# EAGLE library part FCI-10118064-5001310LF (library cape)
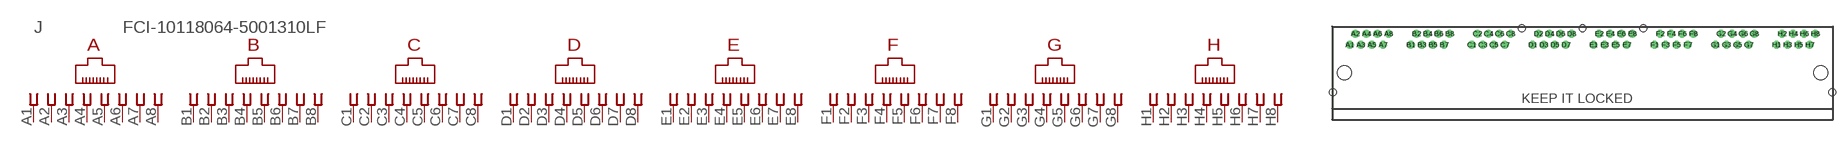
[diagram p0: symbol with the pads of FCI-10118064-5001310LF; footprint FCI-10118064-5001310LF]

Designator prefix J

## FCI-10118064-5001310LF  [FCI-10118064-5001310LF]
A1  A1  pas
A2  A2  pas
A3  A3  pas
A4  A4  pas
A5  A5  pas
A6  A6  pas
A7  A7  pas
A8  A8  pas
B1  B1  pas
B2  B2  pas
B3  B3  pas
B4  B4  pas
B5  B5  pas
B6  B6  pas
B7  B7  pas
B8  B8  pas
C1  C1  pas
C2  C2  pas
C3  C3  pas
C4  C4  pas
C5  C5  pas
C6  C6  pas
C7  C7  pas
C8  C8  pas
D1  D1  pas
D2  D2  pas
D3  D3  pas
D4  D4  pas
D5  D5  pas
D6  D6  pas
D7  D7  pas
D8  D8  pas
E1  E1  pas
E2  E2  pas
E3  E3  pas
E4  E4  pas
E5  E5  pas
E6  E6  pas
E7  E7  pas
E8  E8  pas
F1  F1  pas
F2  F2  pas
F3  F3  pas
F4  F4  pas
F5  F5  pas
F6  F6  pas
F7  F7  pas
F8  F8  pas
G1  G1  pas
G2  G2  pas
G3  G3  pas
G4  G4  pas
G5  G5  pas
G6  G6  pas
G7  G7  pas
G8  G8  pas
H1  H1  pas
H2  H2  pas
H3  H3  pas
H4  H4  pas
H5  H5  pas
H6  H6  pas
H7  H7  pas
H8  H8  pas

## Footprint FCI-10118064-5001310LF (pad centres in mm)
drill 0.9 pad 1.778: A1 -53.375,6.35; A2 -52.105,8.89; A3 -50.835,6.35; A4 -49.565,8.89; A5 -48.295,6.35; A6 -47.025,8.89; A7 -45.755,6.35; A8 -44.485,8.89; B1 -39.395,6.35; B2 -38.125,8.89; B3 -36.855,6.35; B4 -35.585,8.89; B5 -34.315,6.35; B6 -33.045,8.89; B7 -31.775,6.35; B8 -30.505,8.89; C1 -25.415,6.35; C2 -24.145,8.89; C3 -22.875,6.35; C4 -21.605,8.89; C5 -20.335,6.35; C6 -19.065,8.89; C7 -17.795,6.35; C8 -16.525,8.89; D1 -11.435,6.35; D2 -10.165,8.89; D3 -8.895,6.35; D4 -7.625,8.89; D5 -6.355,6.35; D6 -5.085,8.89; D7 -3.815,6.35; D8 -2.545,8.89; E1 2.505,6.35; E2 3.775,8.89; E3 5.045,6.35; E4 6.315,8.89; E5 7.585,6.35; E6 8.855,8.89; E7 10.125,6.35; E8 11.395,8.89; F1 16.485,6.35; F2 17.755,8.89; F3 19.025,6.35; F4 20.295,8.89; F5 21.565,6.35; F6 22.835,8.89; F7 24.105,6.35; F8 25.375,8.89; G1 30.465,6.35; G2 31.735,8.89; G3 33.005,6.35; G4 34.275,8.89; G5 35.545,6.35; G6 36.815,8.89; G7 38.085,6.35; G8 39.355,8.89; H1 44.445,6.35; H2 45.715,8.89; H3 46.985,6.35; H4 48.255,8.89; H5 49.525,6.35; H6 50.795,8.89; H7 52.065,6.35; H8 53.335,8.89
hole 3.2 at -54.61,0
hole 3.2 at 54.61,0
hole 1.6 at -57.3,-4.57
hole 1.6 at 57.3,-4.57
hole 1.6 at -13.98,10.2
hole 1.6 at 0,10.2
hole 1.6 at 13.98,10.2